# EAGLE library part SPARKFUN (library Sparkfun)
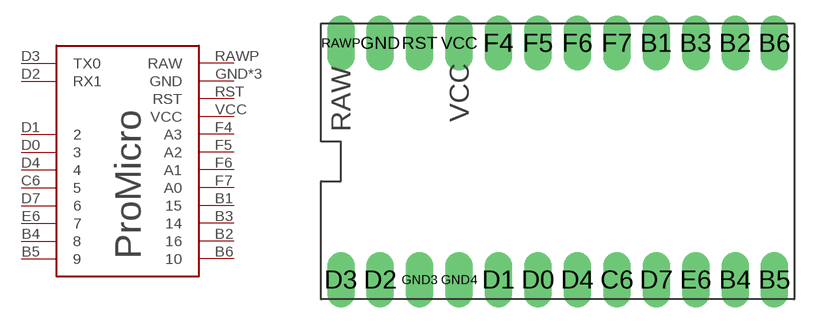
[diagram p0: symbol with the pads of PRO-MICRO; footprint PRO-MICRO]

Designator prefix -

## SPARKFUN  [PRO-MICRO]
B1  15
B2  16
B3  14
B4  8
B5  9
B6  10
C6  5
D0  3
D1  2
D2  RX1
D3  TX0
D4  4
D7  6
E6  7
F4  A3
F5  A2
F6  A1
F7  A0
GND  GND
GND3  GND
GND4  GND
RAWP  RAW
RST  RST
VCC  VCC

## Footprint PRO-MICRO (pad centres in mm)
drill 0.508 pad 1.778 long: B1 7.62,7.62; B2 12.7,7.62; B3 10.16,7.62; B4 12.7,-7.62; B5 15.24,-7.62; B6 15.24,7.62; C6 5.08,-7.62; D0 0,-7.62; D1 -2.54,-7.62; D2 -10.16,-7.62; D3 -12.7,-7.62; D4 2.54,-7.62; D7 7.62,-7.62; E6 10.16,-7.62; F4 -2.54,7.62; F5 0,7.62; F6 2.54,7.62; F7 5.08,7.62; GND -10.16,7.62; GND3 -7.62,-7.62; GND4 -5.08,-7.62; RAWP -12.7,7.62; RST -7.62,7.62; VCC -5.08,7.62